# EAGLE library part ADG918 (library ADG918)
Wideband 4 GHz, 43 dB Isolation at 1 GHz, CMOS 1.65 V to 2.75 V, 2:1 Mux/SPDT The ADG918/ADG919 are wideband switches using a CMOS process to provide high isolation and low insertion loss to 1 GHz. The ADG918 is an absorptive (matched) switch having 50 Ω terminated shunt legs, whereas the ADG919 is a reflective switch. These devices are designed such that the isolation is high over the dc to 1 GHz frequency range. They have on-board CMOS control logic, thus eliminating the need for external controlling circuitry. The control inputs are both CMOS and LVTTL compatible. The low power consumption of these CMOS devices makes them ideally suited to wireless and general-purpose high frequency switching applications.
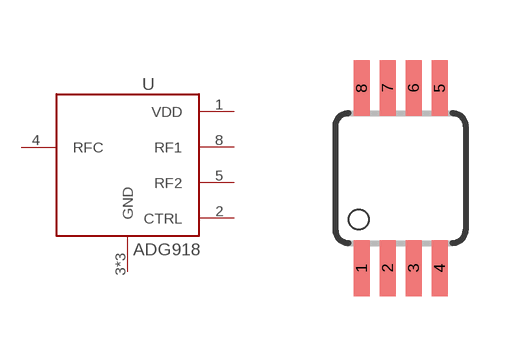
[diagram p0: symbol with the pads of MSOP8; footprint MSOP8]

Designator prefix U

## ADG918  [MSOP8]
1  VDD
2  CTRL
3  GND
4  RFC
5  RF2
6  GND
7  GND
8  RF1

## Footprint MSOP8 (pad centres in mm)
smd 0.4 x 1.4: 1 -0.975,-2.35; 2 -0.325,-2.35; 3 0.325,-2.35; 4 0.975,-2.35; 5 0.975,2.15; 6 0.324,2.15; 7 -0.325,2.15; 8 -0.975,2.15